# Altium integrated library DB2431200L.IntLib: 1 symbol
Pins are listed as number, name and electrical type; pins without a type are passive.

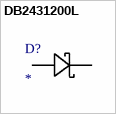
[diagram p0: symbol DB2431200L]

## DB2431200L
designator D?
DIODE SCHOTTKY 30V 5A TMINIP2; Manufacturer 1: Panasonic; Manufacturer Part Number 1: DB2431200L; Max Surge Current: 30A; Peak Reverse Current: 300uA; Recovery Time: 23ns; Element Configuration: Single; Supplier 1: Digi-Key; Stock 1: 270; Pricing 1: 1=0.46000, 10=0.38700, 100=0.29050, 500=0.21300, 1000=0.16459 (USD); RoHS: Yes; Mount: Surface Mount; Number of Pins: 2; Min Operating Temperature: -55°C; Max Operating Temperature: 150°C; Forward Current: 5A; Package Quantity: 3000; Packaging: Tape and Reel; Average Rectified Current: 5A; Reverse Recovery Time: 23ns; Max Reverse Leakage Current: 300uA; Max Repetitive Reverse Voltage (Vrrm): 30V; Max Forward Surge Current (Ifsm): 30A; Peak Non-Repetitive Surge Current: 30A; Max Reverse Voltage (DC): 30V; Length: 3.8mm; Height: 0.85mm; Width: 2.4mm; Radiation Hardening: No; ComponentLink1URL: https://datasheet.ciiva.com/30479/0900766b8124e523-30479602.pdf?src-supplier=RSComponents; ComponentLink1Description: https://datasheet.ciiva.com/30479/0900766b8124e523-30479602.pdf?src-supplier=RSComponents; ComponentLink2URL: https://datasheet.ciiva.com/29883/db24312-aed-29883722.pdf?src-supplier=Avnet; ComponentLink2Description: https://datasheet.ciiva.com/29883/db24312-aed-29883722.pdf?src-supplier=Avnet; ComponentLink3URL: https://datasheet.ciiva.com/24019/db24312-bed-276259-24019037.pdf?src-supplier=Mouser; ComponentLink3Description: https://datasheet.ciiva.com/24019/db24312-bed-276259-24019037.pdf?src-supplier=Mouser; ComponentLink4URL: https://datasheet.ciiva.com/29883/db24312-aed-29883723.pdf?src-supplier=Avnet; ComponentLink4Description: https://datasheet.ciiva.com/29883/db24312-aed-29883723.pdf?src-supplier=Avnet
footprint DB2431200L
pins: 1, 2